# Altium integrated library Integrated_Library1.IntLib: 8 symbols
Pins are listed as number, name and electrical type; pins without a type are passive.

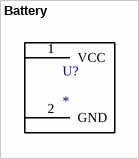
[diagram p0: symbol Battery]

## Battery
designator U?
pins: 1 VCC, 2 GND


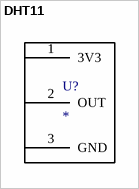
[diagram p1: symbol DHT11]

## DHT11
designator U?
pins: 1 3V3, 2 OUT, 3 GND


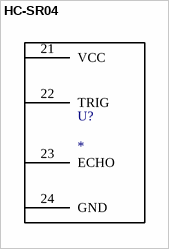
[diagram p2: symbol HC-SR04]

## HC-SR04
designator U?
pins: 21 VCC, 22 TRIG, 23 ECHO, 24 GND


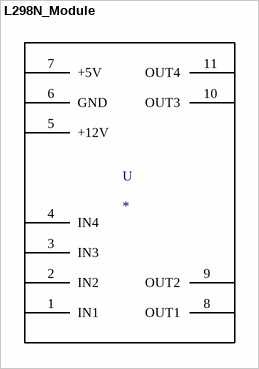
[diagram p3: symbol L298N_Module]

## L298N_Module
designator U
pins: 1 IN1, 2 IN2, 3 IN3, 4 IN4, 5 +12V, 6 GND, 7 +5V, 8 OUT1, 9 OUT2, 10 OUT3, 11 OUT4


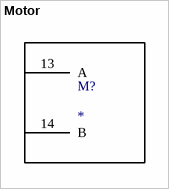
[diagram p4: symbol Motor]

## Motor
designator M?
pins: 13 A, 14 B


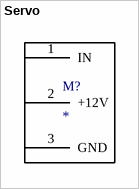
[diagram p5: symbol Servo]

## Servo
designator M?
pins: 1 IN, 2 +12V, 3 GND


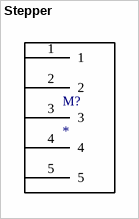
[diagram p6: symbol Stepper]

## Stepper
designator M?
pins: 1, 2, 3, 4, 5


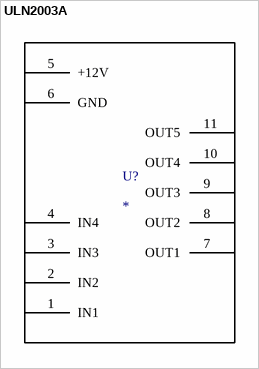
[diagram p7: symbol ULN2003A]

## ULN2003A
designator U?
pins: 1 IN1, 2 IN2, 3 IN3, 4 IN4, 5 +12V, 6 GND, 7 OUT1, 8 OUT2, 9 OUT3, 10 OUT4, 11 OUT5